# Altium footprint library Maxim_Integrated.PcbLib: 12 footprints
Each footprint in its own frame and in the unit in brackets; x right, y up, seen from the top. Pads: shape width x height; smd on the part's side, far side on the other; paste and mask are expansions set on the pad; w line width, h text height; cw(c..) or ccw(c..) is an arc to the next point about the centre after c.
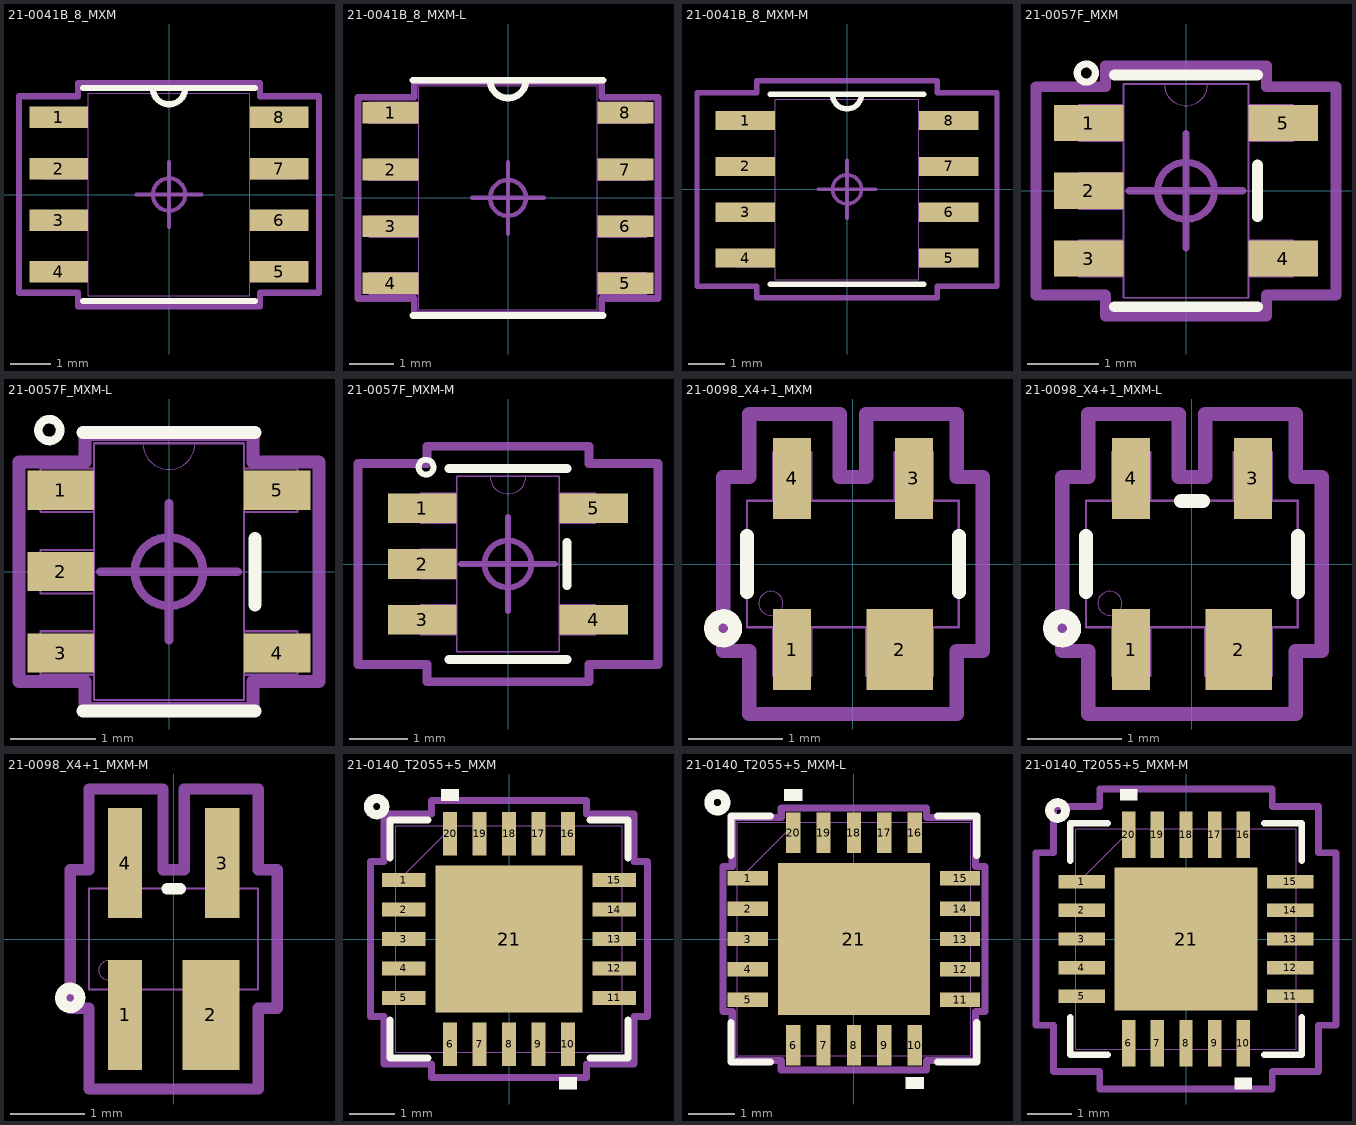
[diagram p0: the footprints below, top view; thin cyan lines are the x and y axes]

## 21-0041B_8_MXM [mil]
pads (8):
  rect 57.28x20.97 smd: 1(-107.14,75) 2(-107.14,25) 3(-107.14,-25) 4(-107.14,-75) 5(107.14,-75) 6(107.14,-25) 7(107.14,25) 8(107.14,75)
Top Overlay:
  lines w5.98: -15.75,103.5 ccw(c0,103.5) 15.75,103.5
  lines w6: -83.5,-103.5 83.5,-103.5 ; -83.5,103.5 83.5,103.5
Mechanical 13:
  lines w0: -12,98.5 ccw(c0,98.5) 12,98.5
  lines w1: -122,-84.5 -78.5,-84.5 -78.5,-65.5 -122,-65.5 -122,-84.5 ; -122,-34.5 -78.5,-34.5 -78.5,-15.5 -122,-15.5 -122,-34.5 ; -122,15.5 -78.5,15.5 -78.5,34.5 -122,34.5 -122,15.5 ; -122,65.5 -78.5,65.5 -78.5,84.5 -122,84.5 -122,65.5 ; -78.5,-98.5 -78.5,98.5 78.5,98.5 78.5,-98.5 -78.5,-98.5 ; 78.5,-84.5 122,-84.5 122,-65.5 78.5,-65.5 78.5,-84.5 ; 78.5,-34.5 122,-34.5 122,-15.5 78.5,-15.5 78.5,-34.5 ; 78.5,15.5 122,15.5 122,34.5 78.5,34.5 78.5,15.5 ; 78.5,65.5 122,65.5 122,84.5 78.5,84.5 78.5,65.5
Mechanical 15:
  circle w3.94: c0,0 r15.75
  lines w3.94: -31.5,0 0,0 ; 0,-31.5 0,0 ; 0,31.5 0,0 ; 31.5,0 0,0
  lines w6: -145.78,-95.48 -88.5,-95.48 -88.5,-108.5 88.5,-108.5 88.5,-95.48 145.78,-95.48 145.78,95.48 88.5,95.48 88.5,108.5 -88.5,108.5 -88.5,95.48 -145.78,95.48 -145.78,-95.48
3D body "21-0041B_8_MXM.step": height 69.09, standoff 0, extent -122,-98.5 122.01,98.51

## 21-0041B_8_MXM-L [mil]
pads (8):
  rect 49.41x19 smd: 1(-103.2,75) 2(-103.2,25) 3(-103.2,-25) 4(-103.2,-75) 5(103.2,-75) 6(103.2,-25) 7(103.2,25) 8(103.2,75)
Top Overlay:
  lines w5.98: -15.75,103.5 ccw(c0,103.5) 15.75,103.5
  lines w6: -83.5,-103.5 83.5,-103.5 ; -83.5,103.5 83.5,103.5
Mechanical 13:
  lines w0: -12,98.5 ccw(c0,98.5) 12,98.5
  lines w1: -122,-84.5 -122,-65.5 -78.5,-65.5 -78.5,-84.5 -122,-84.5 ; -122,-34.5 -122,-15.5 -78.5,-15.5 -78.5,-34.5 -122,-34.5 ; -122,15.5 -122,34.5 -78.5,34.5 -78.5,15.5 -122,15.5 ; -122,65.5 -122,84.5 -78.5,84.5 -78.5,65.5 -122,65.5 ; -78.5,-98.5 78.5,-98.5 78.5,98.5 -78.5,98.5 -78.5,-98.5 ; 78.5,-84.5 78.5,-65.5 122,-65.5 122,-84.5 78.5,-84.5 ; 78.5,-34.5 78.5,-15.5 122,-15.5 122,-34.5 78.5,-34.5 ; 78.5,15.5 78.5,34.5 122,34.5 122,15.5 78.5,15.5 ; 78.5,65.5 78.5,84.5 122,84.5 122,65.5 78.5,65.5
Mechanical 15:
  circle w3.94: c0,0 r15.75
  lines w3.94: -31.5,0 0,0 ; 0,-31.5 0,0 ; 0,31.5 0,0 ; 31.5,0 0,0
  lines w6: -131.91,-88.5 -131.91,88.5 -82.5,88.5 -82.5,102.5 82.5,102.5 82.5,88.5 131.91,88.5 131.91,-88.5 82.5,-88.5 82.5,-102.5 -82.5,-102.5 -82.5,-88.5 -131.91,-88.5
3D body "21-0041B_8_MXM.step": height 69.09, standoff 0, extent -122,-98.5 122.01,98.51

## 21-0041B_8_MXM-M [mil]
pads (8):
  rect 65.15x20.97 smd: 1(-111.08,75) 2(-111.08,25) 3(-111.08,-25) 4(-111.08,-75) 5(111.08,-75) 6(111.08,-25) 7(111.08,25) 8(111.08,75)
Top Overlay:
  lines w5.98: -15.75,103.5 ccw(c0,103.5) 15.75,103.5
  lines w6: -83.5,-103.5 83.5,-103.5 ; -83.5,103.5 83.5,103.5
Mechanical 13:
  lines w0: -12,98.5 ccw(c0,98.5) 12,98.5
  lines w1: -122,-84.5 -78.5,-84.5 -78.5,-65.5 -122,-65.5 -122,-84.5 ; -122,-34.5 -78.5,-34.5 -78.5,-15.5 -122,-15.5 -122,-34.5 ; -122,15.5 -78.5,15.5 -78.5,34.5 -122,34.5 -122,15.5 ; -122,65.5 -78.5,65.5 -78.5,84.5 -122,84.5 -122,65.5 ; -78.5,-98.5 -78.5,98.5 78.5,98.5 78.5,-98.5 -78.5,-98.5 ; 78.5,-84.5 122,-84.5 122,-65.5 78.5,-65.5 78.5,-84.5 ; 78.5,-34.5 122,-34.5 122,-15.5 78.5,-15.5 78.5,-34.5 ; 78.5,15.5 122,15.5 122,34.5 78.5,34.5 78.5,15.5 ; 78.5,65.5 122,65.5 122,84.5 78.5,84.5 78.5,65.5
Mechanical 15:
  circle w3.94: c0,0 r15.75
  lines w3.94: -31.5,0 0,0 ; 0,-31.5 0,0 ; 0,31.5 0,0 ; 31.5,0 0,0
  lines w6: -163.65,-105.48 -98.5,-105.48 -98.5,-118.5 98.5,-118.5 98.5,-105.48 163.65,-105.48 163.65,105.48 98.5,105.48 98.5,118.5 -98.5,118.5 -98.5,105.48 -163.65,105.48 -163.65,-105.48
3D body "21-0041B_8_MXM.step": height 69.09, standoff 0, extent -122,-98.5 122.01,98.51

## 21-0057F_MXM [mil]
pads (5):
  rect 38.28x20 smd: 1(-53.64,37.4) 2(-53.64,0) 3(-53.64,-37.4) 4(53.64,-37.4) 5(53.64,37.4)
Top Overlay:
  circle w3.94: c-55,65 r5
  lines w6: -39.5,-64 39.5,-64 ; -39.5,64 39.5,64 ; 39.5,-14.3 39.5,14.3
Mechanical 13:
  lines w0: -12,59 ccw(c0,59) 12,59
  lines w1: -59,-47.4 -59,-27.4 -34.5,-27.4 -34.5,-47.4 -59,-47.4 ; -59,-10 -59,10 -34.5,10 -34.5,-10 -59,-10 ; -59,27.4 -59,47.4 -34.5,47.4 -34.5,27.4 -59,27.4 ; -34.5,-59 34.5,-59 34.5,59 -34.5,59 -34.5,-59 ; 34.5,-47.4 34.5,-27.4 59,-27.4 59,-47.4 34.5,-47.4 ; 34.5,27.4 34.5,47.4 59,47.4 59,27.4 34.5,27.4
Mechanical 15:
  circle w3.94: c0,0 r15.75
  lines w3.94: -31.5,0 0,0 ; 0,-31.5 0,0 ; 0,31.5 0,0 ; 31.5,0 0,0
  lines w6: -82.78,-57.4 -44.5,-57.4 -44.5,-69 44.5,-69 44.5,-57.4 82.78,-57.4 82.78,57.4 44.5,57.4 44.5,69 -44.5,69 -44.5,57.4 -82.78,57.4 -82.78,-57.4
3D body "21-0057F_MXM.step": height 57.09, standoff 0, extent -59.01,-59.01 59.02,59.02

## 21-0057F_MXM-L [mm]
pads (5):
  rect 0.772x0.458 smd: 1(-1.262,0.95) 2(-1.262,0) 3(-1.262,-0.95) 4(1.262,-0.95) 5(1.262,0.95)
Top Overlay:
  circle w0.1: c-1.397,1.651 r0.127
  lines w0.152: -1.003,-1.626 1.003,-1.626 ; -1.003,1.626 1.003,1.626 ; 1.003,-0.388 1.003,0.388
Mechanical 13:
  lines w0: -0.305,1.499 ccw(c0,1.499) 0.305,1.499
  lines w0.025: -1.499,-1.204 -1.499,-0.696 -0.876,-0.696 -0.876,-1.204 -1.499,-1.204 ; -1.499,-0.254 -1.499,0.254 -0.876,0.254 -0.876,-0.254 -1.499,-0.254 ; -1.499,0.696 -1.499,1.204 -0.876,1.204 -0.876,0.696 -1.499,0.696 ; -0.876,-1.499 0.876,-1.499 0.876,1.499 -0.876,1.499 -0.876,-1.499 ; 0.876,-1.204 0.876,-0.696 1.499,-0.696 1.499,-1.204 0.876,-1.204 ; 0.876,0.696 0.876,1.204 1.499,1.204 1.499,0.696 0.876,0.696
Mechanical 15:
  circle w0.1: c0,0 r0.4
  lines w0.1: -0.8,0 0,0 ; 0,-0.8 0,0 ; 0,0.8 0,0 ; 0.8,0 0,0
  lines w0.152: -1.75,-1.281 -0.978,-1.281 -0.978,-1.6 0.978,-1.6 0.978,-1.281 1.75,-1.281 1.75,1.281 0.978,1.281 0.978,1.6 -0.978,1.6 -0.978,1.281 -1.75,1.281 -1.75,-1.281
3D body "21-0057F_MXM.step": height 1.45, standoff 0, extent -1.499,-1.499 1.499,1.499

## 21-0057F_MXM-M [mil]
pads (5):
  rect 46.15x20 smd: 1(-57.58,37.4) 2(-57.58,0) 3(-57.58,-37.4) 4(57.58,-37.4) 5(57.58,37.4)
Top Overlay:
  circle w3.94: c-55,65 r5
  lines w6: -39.5,-64 39.5,-64 ; -39.5,64 39.5,64 ; 39.5,-14.3 39.5,14.3
Mechanical 13:
  lines w0: -12,59 ccw(c0,59) 12,59
  lines w1: -59,-47.4 -59,-27.4 -34.5,-27.4 -34.5,-47.4 -59,-47.4 ; -59,-10 -59,10 -34.5,10 -34.5,-10 -59,-10 ; -59,27.4 -59,47.4 -34.5,47.4 -34.5,27.4 -59,27.4 ; -34.5,-59 34.5,-59 34.5,59 -34.5,59 -34.5,-59 ; 34.5,-47.4 34.5,-27.4 59,-27.4 59,-47.4 34.5,-47.4 ; 34.5,27.4 34.5,47.4 59,47.4 59,27.4 34.5,27.4
Mechanical 15:
  circle w3.94: c0,0 r15.75
  lines w3.94: -31.5,0 0,0 ; 0,-31.5 0,0 ; 0,31.5 0,0 ; 31.5,0 0,0
  lines w6: -100.65,-67.4 -54.5,-67.4 -54.5,-79 54.5,-79 54.5,-67.4 100.65,-67.4 100.65,67.4 54.5,67.4 54.5,79 -54.5,79 -54.5,67.4 -100.65,67.4 -100.65,-67.4
3D body "21-0057F_MXM.step": height 57.09, standoff 0, extent -59.01,-59.01 59.02,59.02

## 21-0098_X4+1_MXM [mil]
pads (4):
  rect 16x34 smd: 1(-25.59,-36) 3(25.59,36) 4(-25.59,36)
  rect 28x34 smd: 2(19.59,-36)
Top Overlay:
  circle w6: c-54.5,-27 r5
  lines w6: -44.5,-11.75 -44.5,11.75 ; 44.5,-11.75 44.5,11.75
Mechanical 13:
  circle w0: c-34.5,-16.5 r5
  lines w1: -44.5,-26.5 -44.5,26.5 44.5,26.5 44.5,-26.5 -44.5,-26.5 ; -33.59,-47 -17.59,-47 -17.59,-26.5 -33.59,-26.5 -33.59,-47 ; -33.59,26.5 -33.59,47 -17.59,47 -17.59,26.5 -33.59,26.5 ; 5.59,-47 33.59,-47 33.59,-26.5 5.59,-26.5 5.59,-47 ; 17.59,26.5 17.59,47 33.59,47 33.59,26.5 17.59,26.5
Mechanical 15:
  lines w6: -54.5,-36.5 -43.59,-36.5 -43.59,-63 43.59,-63 43.59,-36.5 54.5,-36.5 54.5,36.5 43.59,36.5 43.59,63 5.59,63 5.59,36.5 -5.59,36.5 -5.59,63 -43.59,63 -43.59,36.5 -54.5,36.5 -54.5,-36.5
3D body: height 10, standoff 0, extent 0,0 10,10
3D body "21-0098E.step": height 17.72, standoff -19.68, extent -39.86,-41.33 39.87,41.34

## 21-0098_X4+1_MXM-L [mil]
pads (4):
  rect 16x34 smd: 1(-25.59,-36) 3(25.59,36) 4(-25.59,36)
  rect 28x34 smd: 2(19.59,-36)
Top Overlay:
  circle w6: c-54.5,-27 r5
  lines w6: -44.5,-11.75 -44.5,11.75 ; -4.49,26.5 4.49,26.5 ; 44.5,-11.75 44.5,11.75
Mechanical 13:
  circle w0: c-34.5,-16.5 r5
  lines w1: -44.5,-26.5 44.5,-26.5 44.5,26.5 -44.5,26.5 -44.5,-26.5 ; -33.59,-47 -33.59,-26.5 -17.59,-26.5 -17.59,-47 -33.59,-47 ; -33.59,26.5 -17.59,26.5 -17.59,47 -33.59,47 -33.59,26.5 ; 5.59,-47 5.59,-26.5 33.59,-26.5 33.59,-47 5.59,-47 ; 17.59,26.5 33.59,26.5 33.59,47 17.59,47 17.59,26.5
Mechanical 15:
  lines w6: -54.5,-36.5 -54.5,36.5 -43.59,36.5 -43.59,63 -5.59,63 -5.59,36.5 5.59,36.5 5.59,63 43.59,63 43.59,36.5 54.5,36.5 54.5,-36.5 43.59,-36.5 43.59,-63 -43.59,-63 -43.59,-36.5 -54.5,-36.5
3D body: height 10, standoff 0, extent 0,0 10,10
3D body "21-0098E.step": height 17.72, standoff -19.68, extent -39.86,-41.33 39.87,41.34

## 21-0098_X4+1_MXM-M [mil]
pads (4):
  rect 18x58 smd: 1(-25.59,-40) 3(25.59,40) 4(-25.59,40)
  rect 30x58 smd: 2(19.59,-40)
Top Overlay:
  circle w6: c-54.5,-31 r5
  lines w6: -3.49,26.5 3.49,26.5
Mechanical 13:
  circle w0: c-34.5,-16.5 r5
  lines w1: -44.5,-26.5 -44.5,26.5 44.5,26.5 44.5,-26.5 -44.5,-26.5 ; -33.59,-47 -17.59,-47 -17.59,-26.5 -33.59,-26.5 -33.59,-47 ; -33.59,26.5 -33.59,47 -17.59,47 -17.59,26.5 -33.59,26.5 ; 5.59,-47 33.59,-47 33.59,-26.5 5.59,-26.5 5.59,-47 ; 17.59,26.5 17.59,47 33.59,47 33.59,26.5 17.59,26.5
Mechanical 15:
  lines w6: -54.5,-36.5 -44.59,-36.5 -44.59,-79 44.59,-79 44.59,-36.5 54.5,-36.5 54.5,36.5 44.59,36.5 44.59,79 5.59,79 5.59,36.5 -5.59,36.5 -5.59,79 -44.59,79 -44.59,36.5 -54.5,36.5 -54.5,-36.5
3D body: height 10, standoff 0, extent 0,0 10,10
3D body "21-0098E.step": height 17.72, standoff -19.68, extent -39.86,-41.33 39.87,41.34

## 21-0140_T2055+5_MXM [mm]
pads (21):
  rect 0.96x0.306 smd: 1(-2.322,1.3) 2(-2.322,0.65) 3(-2.322,0) 4(-2.322,-0.65) 5(-2.322,-1.3) 11(2.322,-1.3) 12(2.322,-0.65) 13(2.322,0) 14(2.322,0.65) 15(2.322,1.3)
  rect 0.306x0.96 smd: 6(-1.3,-2.322) 7(-0.65,-2.322) 8(0,-2.322) 9(0.65,-2.322) 10(1.3,-2.322) 16(1.3,2.322) 17(0.65,2.322) 18(0,2.322) 19(-0.65,2.322) 20(-1.3,2.322)
  rect 3.251x3.251 smd: 21(0,0)
Top Overlay:
  circle w0.2: c-2.921,2.921 r0.18
  region: 1.49,-3.056 1.109,-3.056 1.109,-3.31 1.49,-3.31
  region: -1.109,3.056 -1.49,3.056 -1.49,3.31 -1.109,3.31
  lines w0.152: -2.629,-1.786 -2.629,-2.629 -1.786,-2.629 ; -2.629,1.786 -2.629,2.629 -1.786,2.629 ; 1.786,-2.629 2.629,-2.629 2.629,-1.786 ; 1.786,2.629 2.629,2.629 2.629,1.786
Top Paste:
  region: -0.1,1.526 -1.526,1.526 -1.526,0.1 -0.1,0.1
  region: -0.1,-0.1 -1.526,-0.1 -1.526,-1.526 -0.1,-1.526
  region: 1.526,1.526 0.1,1.526 0.1,0.1 1.526,0.1
  region: 1.526,-0.1 0.1,-0.1 0.1,-1.526 1.526,-1.526
Mechanical 13:
  lines w0.025: -2.502,1.232 -1.232,2.502 ; -2.502,-2.502 2.502,-2.502 2.502,2.502 -2.502,2.502 -2.502,-2.502 ; -2.502,-1.478 -2.502,-1.122 -2.502,-1.478 ; -2.502,-0.828 -2.502,-0.472 -2.502,-0.828 ; -2.502,-0.178 -2.502,0.178 -2.502,-0.178 ; -2.502,0.472 -2.502,0.828 -2.502,0.472 ; -2.502,1.122 -2.502,1.478 -2.502,1.122 ; -1.478,-2.502 -1.122,-2.502 -1.478,-2.502 ; -1.478,2.502 -1.122,2.502 -1.478,2.502 ; -0.828,-2.502 -0.472,-2.502 -0.828,-2.502 ; -0.828,2.502 -0.472,2.502 -0.828,2.502 ; -0.178,-2.502 0.178,-2.502 -0.178,-2.502 ; -0.178,2.502 0.178,2.502 -0.178,2.502 ; 0.472,-2.502 0.828,-2.502 0.472,-2.502 ; 0.472,2.502 0.828,2.502 0.472,2.502 ; 1.122,-2.502 1.478,-2.502 1.122,-2.502 ; 1.122,2.502 1.478,2.502 1.122,2.502 ; 2.502,-1.478 2.502,-1.122 2.502,-1.478 ; 2.502,-0.828 2.502,-0.472 2.502,-0.828 ; 2.502,-0.178 2.502,0.178 2.502,-0.178 ; 2.502,0.472 2.502,0.828 2.502,0.472 ; 2.502,1.122 2.502,1.478 2.502,1.122
Mechanical 15:
  circle w0.1: c0,0 r0.4
  lines w0.1: -0.8,0 0,0 ; 0,-0.8 0,0 ; 0,0.8 0,0 ; 0.8,0 0,0
  lines w0.152: -3.056,-1.707 -2.756,-1.707 -2.756,-2.756 -1.707,-2.756 -1.707,-3.056 1.707,-3.056 1.707,-2.756 2.756,-2.756 2.756,-1.707 3.056,-1.707 3.056,1.707 2.756,1.707 2.756,2.756 1.707,2.756 1.707,3.056 -1.707,3.056 -1.707,2.756 -2.756,2.756 -2.756,1.707 -3.056,1.707 -3.056,-1.707
3D body "21-0140_T2055+5_MXM.step": height 0.81, standoff 0, extent -2.502,-2.502 2.502,2.502

## 21-0140_T2055+5_MXM-L [mm]
pads (21):
  rect 0.86x0.306 smd: 1(-2.272,1.3) 2(-2.272,0.65) 3(-2.272,0) 4(-2.272,-0.65) 5(-2.272,-1.3) 11(2.272,-1.3) 12(2.272,-0.65) 13(2.272,0) 14(2.272,0.65) 15(2.272,1.3)
  rect 0.306x0.86 smd: 6(-1.3,-2.272) 7(-0.65,-2.272) 8(0,-2.272) 9(0.65,-2.272) 10(1.3,-2.272) 16(1.3,2.272) 17(0.65,2.272) 18(0,2.272) 19(-0.65,2.272) 20(-1.3,2.272)
  rect 3.251x3.251 smd: 21(0,0)
Top Overlay:
  circle w0.2: c-2.921,2.921 r0.18
  region: -1.109,2.956 -1.49,2.956 -1.49,3.21 -1.109,3.21
  region: 1.49,-2.956 1.109,-2.956 1.109,-3.21 1.49,-3.21
  lines w0.152: -2.629,-1.786 -2.629,-2.629 -1.786,-2.629 ; -2.629,1.786 -2.629,2.629 -1.786,2.629 ; 1.786,-2.629 2.629,-2.629 2.629,-1.786 ; 1.786,2.629 2.629,2.629 2.629,1.786
Top Paste:
  region: 1.526,-0.1 0.1,-0.1 0.1,-1.526 1.526,-1.526
  region: 1.526,1.526 0.1,1.526 0.1,0.1 1.526,0.1
  region: -0.1,-0.1 -1.526,-0.1 -1.526,-1.526 -0.1,-1.526
  region: -0.1,1.526 -1.526,1.526 -1.526,0.1 -0.1,0.1
Mechanical 13:
  lines w0.025: -2.502,1.232 -1.232,2.502 ; -2.502,-2.502 -2.502,2.502 2.502,2.502 2.502,-2.502 -2.502,-2.502 ; -2.502,-1.478 -2.502,-1.122 -2.502,-1.478 ; -2.502,-0.828 -2.502,-0.472 -2.502,-0.828 ; -2.502,-0.178 -2.502,0.178 -2.502,-0.178 ; -2.502,0.472 -2.502,0.828 -2.502,0.472 ; -2.502,1.122 -2.502,1.478 -2.502,1.122 ; -1.478,-2.502 -1.122,-2.502 -1.478,-2.502 ; -1.478,2.502 -1.122,2.502 -1.478,2.502 ; -0.828,-2.502 -0.472,-2.502 -0.828,-2.502 ; -0.828,2.502 -0.472,2.502 -0.828,2.502 ; -0.178,-2.502 0.178,-2.502 -0.178,-2.502 ; -0.178,2.502 0.178,2.502 -0.178,2.502 ; 0.472,-2.502 0.828,-2.502 0.472,-2.502 ; 0.472,2.502 0.828,2.502 0.472,2.502 ; 1.122,-2.502 1.478,-2.502 1.122,-2.502 ; 1.122,2.502 1.478,2.502 1.122,2.502 ; 2.502,-1.478 2.502,-1.122 2.502,-1.478 ; 2.502,-0.828 2.502,-0.472 2.502,-0.828 ; 2.502,-0.178 2.502,0.178 2.502,-0.178 ; 2.502,0.472 2.502,0.828 2.502,0.472 ; 2.502,1.122 2.502,1.478 2.502,1.122
Mechanical 15:
  circle w0.1: c0,0 r0.4
  lines w0.1: -0.8,0 0,0 ; 0,-0.8 0,0 ; 0,0.8 0,0 ; 0.8,0 0,0
  lines w0.152: -2.803,-1.554 -2.803,1.554 -2.603,1.554 -2.603,2.603 -1.554,2.603 -1.554,2.803 1.554,2.803 1.554,2.603 2.603,2.603 2.603,1.554 2.803,1.554 2.803,-1.554 2.603,-1.554 2.603,-2.603 1.554,-2.603 1.554,-2.803 -1.554,-2.803 -1.554,-2.603 -2.603,-2.603 -2.603,-1.554 -2.803,-1.554
3D body "21-0140_T2055+5_MXM.step": height 0.81, standoff 0, extent -2.502,-2.502 2.502,2.502

## 21-0140_T2055+5_MXM-M [mm]
pads (21):
  rect 1.06x0.306 smd: 1(-2.372,1.3) 2(-2.372,0.65) 3(-2.372,0) 4(-2.372,-0.65) 5(-2.372,-1.3) 11(2.372,-1.3) 12(2.372,-0.65) 13(2.372,0) 14(2.372,0.65) 15(2.372,1.3)
  rect 0.306x1.06 smd: 6(-1.3,-2.372) 7(-0.65,-2.372) 8(0,-2.372) 9(0.65,-2.372) 10(1.3,-2.372) 16(1.3,2.372) 17(0.65,2.372) 18(0,2.372) 19(-0.65,2.372) 20(-1.3,2.372)
  rect 3.251x3.251 smd: 21(0,0)
Top Overlay:
  circle w0.2: c-2.921,2.921 r0.18
  region: 1.49,-3.156 1.109,-3.156 1.109,-3.41 1.49,-3.41
  region: -1.109,3.156 -1.49,3.156 -1.49,3.41 -1.109,3.41
  lines w0.152: -2.629,-1.786 -2.629,-2.629 -1.786,-2.629 ; -2.629,1.786 -2.629,2.629 -1.786,2.629 ; 1.786,-2.629 2.629,-2.629 2.629,-1.786 ; 1.786,2.629 2.629,2.629 2.629,1.786
Top Paste:
  region: -0.1,1.526 -1.526,1.526 -1.526,0.1 -0.1,0.1
  region: -0.1,-0.1 -1.526,-0.1 -1.526,-1.526 -0.1,-1.526
  region: 1.526,1.526 0.1,1.526 0.1,0.1 1.526,0.1
  region: 1.526,-0.1 0.1,-0.1 0.1,-1.526 1.526,-1.526
Mechanical 13:
  lines w0.025: -2.502,1.232 -1.232,2.502 ; -2.502,-2.502 2.502,-2.502 2.502,2.502 -2.502,2.502 -2.502,-2.502 ; -2.502,-1.478 -2.502,-1.122 -2.502,-1.478 ; -2.502,-0.828 -2.502,-0.472 -2.502,-0.828 ; -2.502,-0.178 -2.502,0.178 -2.502,-0.178 ; -2.502,0.472 -2.502,0.828 -2.502,0.472 ; -2.502,1.122 -2.502,1.478 -2.502,1.122 ; -1.478,-2.502 -1.122,-2.502 -1.478,-2.502 ; -1.478,2.502 -1.122,2.502 -1.478,2.502 ; -0.828,-2.502 -0.472,-2.502 -0.828,-2.502 ; -0.828,2.502 -0.472,2.502 -0.828,2.502 ; -0.178,-2.502 0.178,-2.502 -0.178,-2.502 ; -0.178,2.502 0.178,2.502 -0.178,2.502 ; 0.472,-2.502 0.828,-2.502 0.472,-2.502 ; 0.472,2.502 0.828,2.502 0.472,2.502 ; 1.122,-2.502 1.478,-2.502 1.122,-2.502 ; 1.122,2.502 1.478,2.502 1.122,2.502 ; 2.502,-1.478 2.502,-1.122 2.502,-1.478 ; 2.502,-0.828 2.502,-0.472 2.502,-0.828 ; 2.502,-0.178 2.502,0.178 2.502,-0.178 ; 2.502,0.472 2.502,0.828 2.502,0.472 ; 2.502,1.122 2.502,1.478 2.502,1.122
Mechanical 15:
  circle w0.1: c0,0 r0.4
  lines w0.1: -0.8,0 0,0 ; 0,-0.8 0,0 ; 0,0.8 0,0 ; 0.8,0 0,0
  lines w0.152: -3.41,-1.961 -3.01,-1.961 -3.01,-3.01 -1.961,-3.01 -1.961,-3.41 1.961,-3.41 1.961,-3.01 3.01,-3.01 3.01,-1.961 3.41,-1.961 3.41,1.961 3.01,1.961 3.01,3.01 1.961,3.01 1.961,3.41 -1.961,3.41 -1.961,3.01 -3.01,3.01 -3.01,1.961 -3.41,1.961 -3.41,-1.961
3D body "21-0140_T2055+5_MXM.step": height 0.81, standoff 0, extent -2.502,-2.502 2.502,2.502